# EAGLE library part TRANS_CT (library 1)
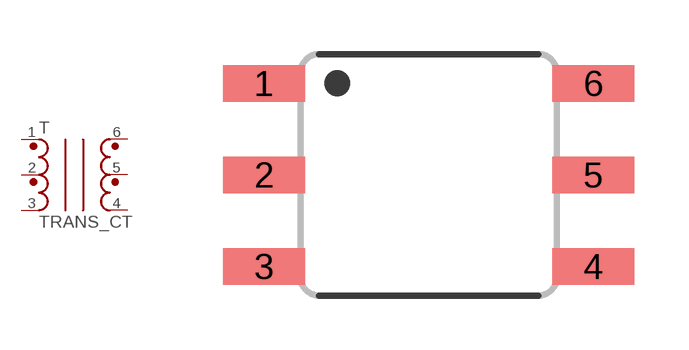
[diagram p28: symbol with the pads of TRANS_WURTH; footprint TRANS_WURTH]

Designator prefix T

## TRANS_CTWURTH  [TRANS_WURTH]
1  1
2  2
3  3
4  4
5  5
6  6

## Footprint TRANS_WURTH (pad centres in mm)
Center Tapped Transformer Wurth Elektronik ex. 760390012 <http://katalog.we-online.de/ctm/datasheet/760390012.pdf>
smd 2.286 x 1.016: 1 -4.572,2.54; 2 -4.572,0; 3 -4.572,-2.54; 4 4.572,-2.54; 5 4.572,0; 6 4.572,2.54